# Altium footprint library IMU IC Breakouts 2020.PcbLib: 2 footprints
Each footprint in its own frame and in the unit in brackets; x right, y up, seen from the top. Pads: shape width x height; smd on the part's side, far side on the other; paste and mask are expansions set on the pad; w line width, h text height; cw(c..) or ccw(c..) is an arc to the next point about the centre after c.
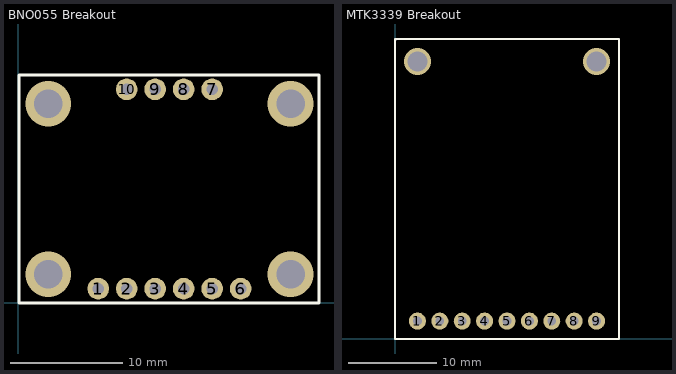
[diagram p0: the footprints below, top view; thin cyan lines are the x and y axes]

## BNO055 Breakout [mil]
pads (10):
  round 76 hole 40: 1(280,50) 2(380,50) 3(480,50) 4(580,50) 5(680,50) 6(780,50) 7(680,750) 8(580,750) 9(480,750) 10(380,750)
via 105,700 diameter 160 hole 100
via 955,700 diameter 160 hole 100
via 955,100 diameter 160 hole 100
via 105,100 diameter 160 hole 100
Top Overlay:
  lines w10: 1.84,0 1.84,800 1055,800 1055,0 1.84,0

## MTK3339 Breakout [mil]
pads (9):
  round 76 hole 39.37: 1(100,80) 2(200,80) 3(300,80) 4(400,80) 5(500,80) 6(600,80) 7(700,80) 8(800,80) 9(900,80)
via 100,1240 diameter 120 hole 90
via 900,1240 diameter 120 hole 90
Top Overlay:
  lines w10: 0,1340 1000,1340 ; 1000,1340 5,1340 0,1335 0,0 1000,0 1000,1340